# EAGLE library part 691412320008M (library WR-TBL Spring Clamp)
WR-TBL Serie 4123M - 3.81 mm Screwless 45° Entry KIND PROPERTIES Pitch 3.81 mm MATERIAL PROPERTIES Insulator Material PA6/66 Insulator Flammability Rating UL94 V-0 Insulator Color Grey Contact Material Phosphor Bronze Contact Plating Tin Wire Guard Material Phosphor Bronze with Tin GENERAL INFORMATION Operating Temperature -30 up to +120 °C Compliance Lead free / RoHS ELECTRICAL PROPERTIES IR UL 4 A IR VDE 4 A Working Voltage [UL] 300 V (AC) Working Voltage [VDE] 450 V (AC) Withstanding Voltage [UL] 1600 V (AC) Withstanding Voltage [VDE] 2500 V (AC) Contact Resistance 20 mΩ Mechanical Properties Wire Strip Length 7 (mm) Wire Properties Solid Wire Section (AWG) 16 to 30 (AWG) Solid Wire Section (Metric) 1.31 to 0.05 (mm²) Stranded Wire Section (AWG) 16 to 30 (AWG) Stranded Wire Section (Metric) 1.31 to 0.05 (mm²) CERTIFICATION UL Approval E150931; E150931 Cat No. MRT24 (3) VDE Approval 40013441 VDE Approval 40013441 Type MRT24 Packaging Properties Packaging Box <https://www.we-online.com/catalog/media/o84319v209%20Family_WR-TBL_6914123200xx.jpg> Details see: https://www.we-online.com/catalog/en/TBL_3_81_4123M_SCREWLESS_45-DEGREE_ENTRY_6914123200xxM/ Updated by Ella Wu 2019-12-31 2019(C) Wurth Elektronik
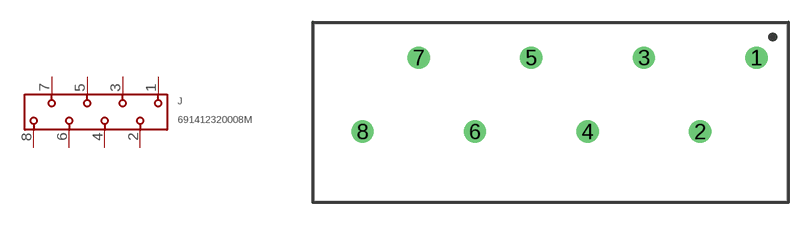
[diagram p105: symbol with the pads of 691412320008M; footprint 691412320008M]

Designator prefix J

## 691412320008M (DATASHEET-URL: https://www.we-online.com/redexpert/spec/691412320008M?ae; IR-UL: 4A; IR-VDE: 4A; MOUNT: THT; PART-NUMBER: 691412320008M; PINS: 8; PITCH: 3.81mm; TYPE: 45°; VALUE: 691412320008M; WIRE: 16 to 30 (AWG) 1.31 to 0.05 (mm²); WORKING-VOLTAGE-UL: 300V (AC); WORKING-VOLTAGE-VDE: 450V (AC))  [691412320008M]
1  1  pas
2  2  pas
3  3  pas
4  4  pas
5  5  pas
6  6  pas
7  7  pas
8  8  pas

## Footprint 691412320008M (pad centres in mm)
WR-TBL Serie 4123M - 3.81 mm Screwless 45° Entry Max Height = 13.2mm , Pitch 3.81mm , 8pins
drill 1: 1 13.335,2.5; 2 9.525,-2.5; 3 5.715,2.5; 4 1.905,-2.5; 5 -1.905,2.5; 6 -5.715,-2.5; 7 -9.525,2.5; 8 -13.335,-2.5